# EAGLE library part 1825057-4 (library Switches)
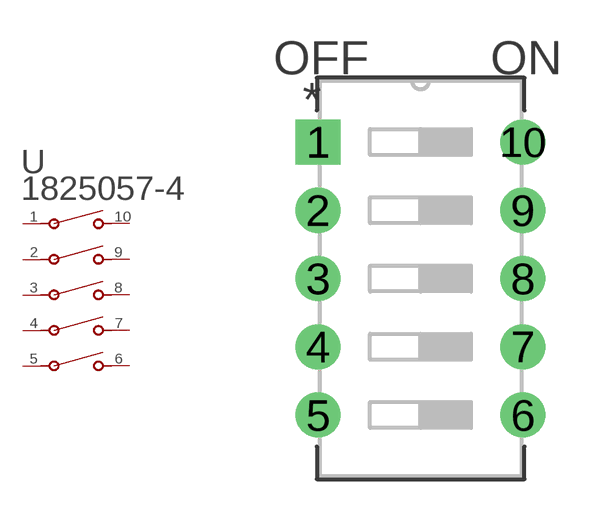
[diagram p17: symbol with the pads of SWDIP10_300X138P100; footprint SWDIP10_300X138P100]

Designator prefix U

## 1825057-4 (BUILT_BY: EMA_UL_Team; CATEGORY: DIP & SIP Switches; COPYRIGHT: Copyright (C) 2016 Accelerated Designs. All rights reserved; DESCRIPTION: ADE0504=DIP SWITCH,EXT,THRU/HL; MANUFACTURER_PART_NUMBER: 1825057-4; PART_STATUS: active; SERIES: Alcoswitch DIP,Alcoswitch DIP ADE; VENDOR: TE Connectivity)  [SWDIP10_300X138P100]
1  1  pas
2  2  pas
3  3  pas
4  4  pas
5  5  pas
6  6  pas
7  7  pas
8  8  pas
9  9  pas
10  10  pas

## Footprint SWDIP10_300X138P100 (pad centres in mm)
drill 0.965 pad 1.676 square: 1 -7.62,10.16
drill 0.965 pad 1.676: 2 -7.62,7.62; 3 -7.62,5.08; 4 -7.62,2.54; 5 -7.62,0; 6 0,0; 7 0,2.54; 8 0,5.08; 9 0,7.62; 10 0,10.16